# Altium schematic symbol library R-CRCW060333K0JNEA.Schlib: 1 symbol
Pins are listed as number, name and electrical type; pins without a type are passive.

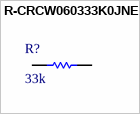
[diagram p0: symbol R-CRCW060333K0JNEA]

## R-CRCW060333K0JNEA
designator R?, comment 33k
Thick Film Resistors 1/10watt 33Kohms 5%
pins: 1, 2